# Altium footprint library HT66F2390_footprint.PcbLib: 1 footprints
Each footprint in its own frame and in the unit in brackets; x right, y up, seen from the top. Pads: shape width x height; smd on the part's side, far side on the other; paste and mask are expansions set on the pad; w line width, h text height; cw(c..) or ccw(c..) is an arc to the next point about the centre after c.
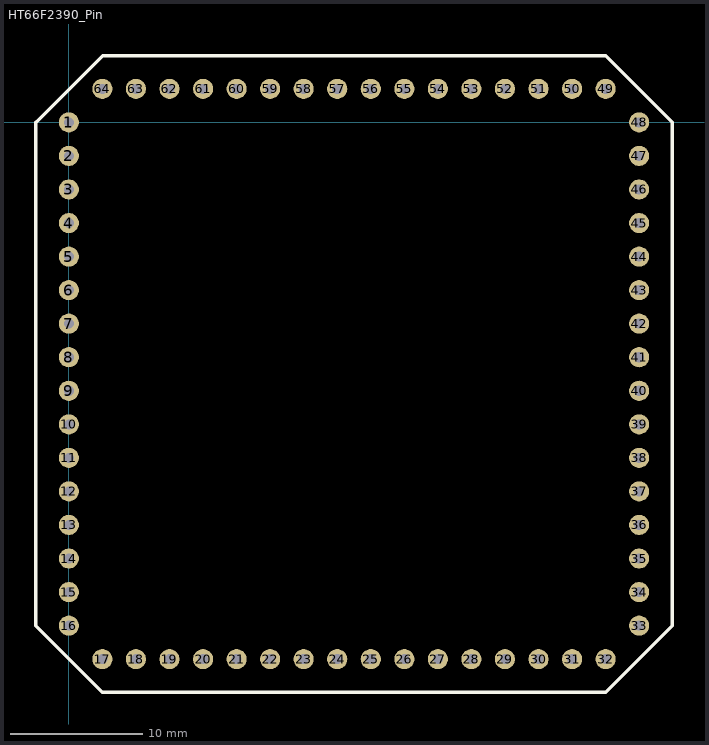
[diagram p0: the footprint, top view; thin cyan lines are the x and y axes]

## HT66F2390_Pin [mil]
pads (64):
  round 60 hole 30: 1(0,0) 2(0,-100) 3(0,-200) 4(0,-300) 5(0,-400) 6(0,-500) 7(0,-600) 8(0,-700) 9(0,-800) 10(0,-900) 11(0,-1000) 12(0,-1100) 13(0,-1200) 14(0,-1300) 15(0,-1400) 16(0,-1500) 17(100,-1600) 18(200,-1600) 19(300,-1600) 20(400,-1600) 21(500,-1600) 22(600,-1600) 23(700,-1600) 24(800,-1600) 25(900,-1600) 26(1000,-1600) 27(1100,-1600) 28(1200,-1600) 29(1300,-1600) 30(1400,-1600) 31(1500,-1600) 32(1600,-1600) 33(1700,-1500) 34(1700,-1400) 35(1700,-1300) 36(1700,-1200) 37(1700,-1100) 38(1700,-1000) 39(1700,-900) 40(1700,-800) 41(1700,-700) 42(1700,-600) 43(1700,-500) 44(1700,-400) 45(1700,-300) 46(1700,-200) 47(1700,-100) 48(1700,0) 49(1600,100) 50(1500,100) 51(1400,100) 52(1300,100) 53(1200,100) 54(1100,100) 55(1000,100) 56(900,100) 57(800,100) 58(700,100) 59(600,100) 60(500,100) 61(400,100) 62(300,100) 63(200,100) 64(100,100)
Top Overlay:
  lines w10: -98.43,0 -98.43,-1500 100,-1698.43 1600,-1698.43 1798.43,-1500 1798.43,0 1600,198.43 101.57,198.43 -96.85,0